# EAGLE library part NCP380 (library pimoroni)
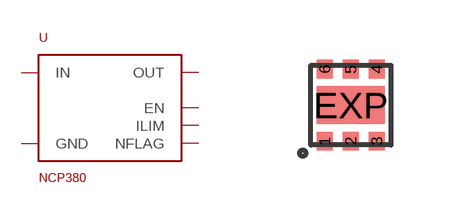
[diagram p56: symbol with the pads of UDFN6; footprint UDFN6]

Designator prefix -

## NCP380LMUAJAATBG  [UDFN6]
1  OUT
2  ILIM
3  NFLAG
4  EN
5  GND
6  IN
EXP  GND

## Footprint UDFN6 (pad centres in mm)
smd 0.4 x 0.47: 1 -0.65,-0.9; 2 0,-0.9; 3 0.65,-0.9; 4 0.65,0.9; 5 0,0.9; 6 -0.65,0.9
smd 1.7 x 0.95: EXP 0,0